# EAGLE library part 6_PIN_100MIL (library jobygnss)
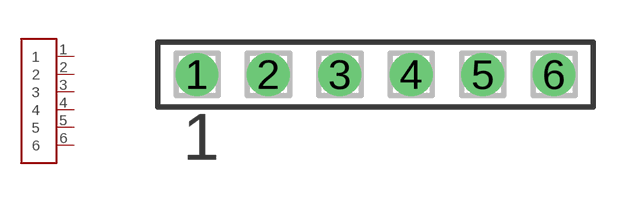
[diagram p10: symbol with the pads of SSW-106-02-S-S; footprint SSW-106-02-S-S]

Designator prefix J

## 6_PIN_100MIL  [SSW-106-02-S-S]
1  1
2  2
3  3
4  4
5  5
6  6

## Footprint SSW-106-02-S-S (pad centres in mm)
THROUGH-HOLE .025" SQ POST SOCKET Source: Samtec SSW.pdf
drill 1 pad 1.524: 1 -6.35,0; 2 -3.81,0; 3 -1.27,0; 4 1.27,0; 5 3.81,0; 6 6.35,0